# Altium footprint library LWL283-Q1R2-3K8L-1-Z.PcbLib: 1 footprints
Each footprint in its own frame and in the unit in brackets; x right, y up, seen from the top. Pads: shape width x height; smd on the part's side, far side on the other; paste and mask are expansions set on the pad; w line width, h text height; cw(c..) or ccw(c..) is an arc to the next point about the centre after c.
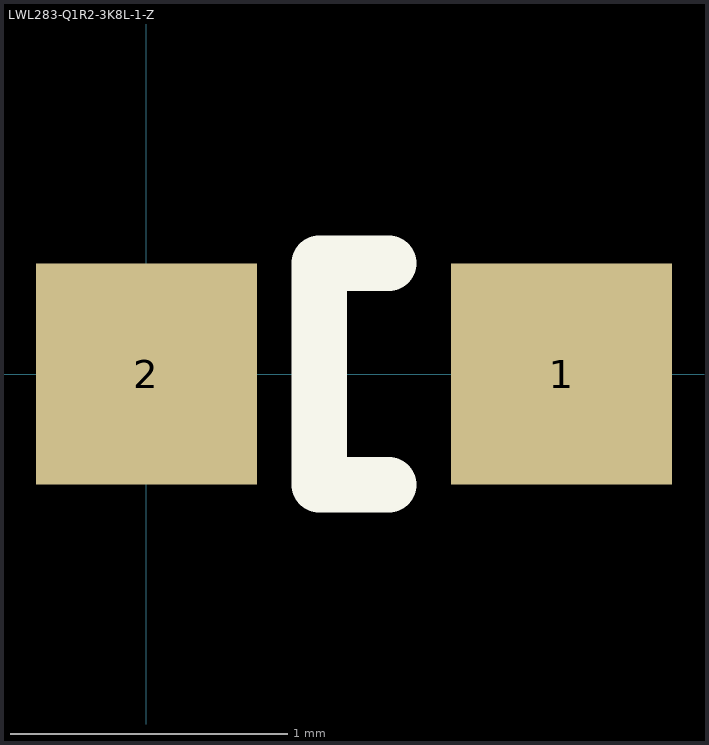
[diagram p0: the footprint, top view; thin cyan lines are the x and y axes]

## LWL283-Q1R2-3K8L-1-Z [mm] "OSRAM - LWL283-Q1R2-3K8L-1-Z - LED, SMD, WHITE"
height 0.65
pads (2):
  rect 0.8x0.8 smd: 1(1.5,0) 2(0,0)
Top Overlay:
  lines w0.2: 0.875,-0.4 0.625,-0.4 0.625,0.4 0.875,0.4
3D body: height 0.65, standoff 0, extent -0.1,-0.4 1.6,0.4